# EAGLE library part LM22675 (library aerial)
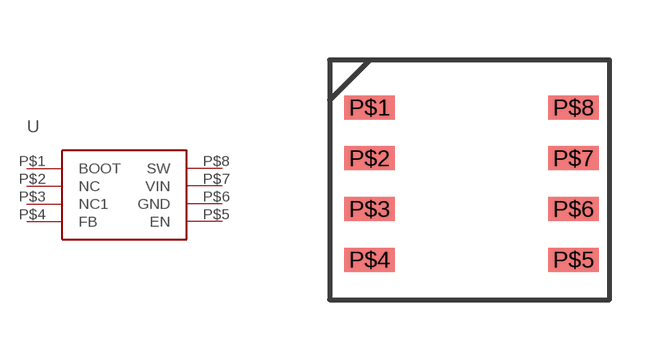
[diagram p4: symbol with the pads of LM22675_(8-SOIC); footprint LM22675_(8-SOIC)]

Designator prefix U

## LM22675  [LM22675_(8-SOIC)]
P$1  BOOT
P$2  NC
P$3  NC1
P$4  FB
P$5  EN
P$6  GND
P$7  VIN
P$8  SW

## Footprint LM22675_(8-SOIC) (pad centres in mm)
smd 1.27 x 0.6: P$1 0,3.81; P$2 0,2.54; P$3 0,1.27; P$4 0,0; P$5 5.1,0; P$6 5.1,1.27; P$7 5.1,2.54; P$8 5.1,3.81